# Altium schematic symbol library LTC7872HLXEWPBF.SchLib: 1 symbol
Pins are listed as number, name and electrical type; pins without a type are passive.

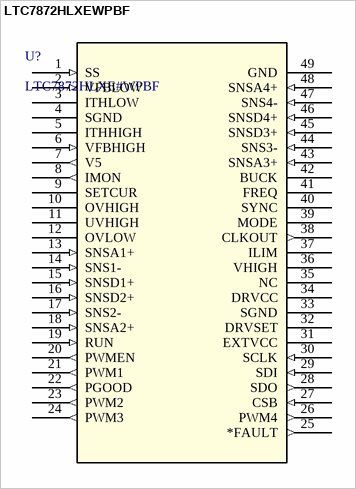
[diagram p0: symbol LTC7872HLXEWPBF]

## LTC7872HLXEWPBF
designator U?, comment LTC7872HLXE#WPBF
Quad-Phase, Synchronous Bidirectional Buck or Boost Controller; Manufacturer_Name: Analog Devices Inc; Copyright: Copyright (C) 2025 Ultra Librarian. All rights reserved.; Manufacturer_Part_Number: LTC7872HLXE#WPBF; Datasheet: https://www.analog.com/media/en/technical-documentation/data-sheets/ltc7872.pdf; RefDes: RefDes; Type: Type
footprint LXE_05-08-1832_ADI
pins: 1 SS (in), 2 VFBLOW (in), 3 ITHLOW, 4 SGND (power), 5 ITHHIGH, 6 VFBHIGH (in), 7 V5 (out), 8 IMON (out), 9 SETCUR, 10 OVHIGH, 11 UVHIGH, 12 OVLOW, 13 SNSA1+ (in), 14 SNS1- (in), 15 SNSD1+ (in), 16 SNSD2+ (in), 17 SNS2- (in), 18 SNSA2+ (in), 19 RUN (in), 20 PWMEN (out), 21 PWM1 (out), 22 PGOOD (out), 23 PWM2 (out), 24 PWM3 (out), 25 *FAULT (out), 26 PWM4 (out), 27 CSB (in), 28 SDO (out), 29 SDI (in), 30 SCLK (in), 31 EXTVCC (power), 32 DRVSET, 33 SGND (power), 34 DRVCC (power), 35 NC, 36 VHIGH (power), 37 ILIM, 38 CLKOUT (out), 39 MODE, 40 SYNC, 41 FREQ, 42 BUCK, 43 SNSA3+ (in), 44 SNS3- (in), 45 SNSD3+ (in), 46 SNSD4+ (in), 47 SNS4- (in), 48 SNSA4+ (in), 49 GND (power)